# Altium schematic symbol library eeprom_93LC56BT-IOT.SchLib: 1 symbol
Pins are listed as number, name and electrical type; pins without a type are passive.

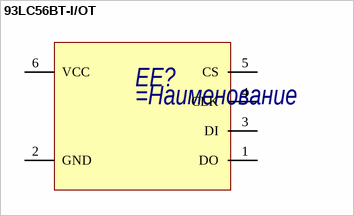
[diagram p0: symbol 93LC56BT-I/OT]

## 93LC56BT-I/OT
designator EE?
=Описание
pins: 1 DO, 2 GND, 3 DI, 4 CLK, 5 CS, 6 VCC